# EAGLE library part 440YS67082622 (library EAGLE-TACT_SWITCHES-rev17c)
12x12 mm THT illuminated WS-TATL, 6 pins <http://katalog.we-online.de/media/images/v2/Family_WS_TLT_Illuminated_440xx67082622_pf2.jpg> Details see: http://katalog.we-online.de/en/em/TATL_12X12_THT 2015 (C) Wurth Elektronik
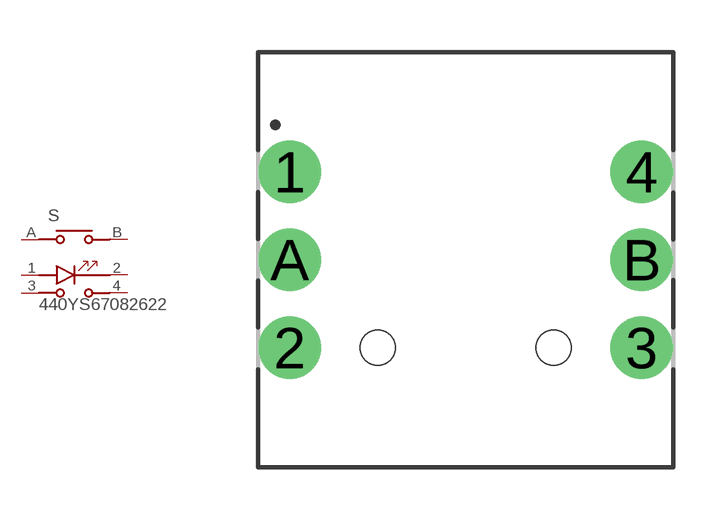
[diagram p118: symbol with the pads of 440YS67082622; footprint 440YS67082622]

Designator prefix S

## 440YS67082622  [440YS67082622]
1  1  pas
2  2  pas
3  3  pas
4  4  pas
A  A  pas
B  B  pas

## Footprint 440YS67082622 (pad centres in mm)
WS-TLT 12x12mm Tact Switch with integrated LED, THT version, 6 pins
drill 1.2: 1 -5.08,2.54; 2 -5.08,-2.54; 3 5.08,-2.54; 4 5.08,2.54; A -5.08,0; B 5.08,0
hole 1 at -2.54,-2.54
hole 1 at 2.54,-2.54